# Altium footprint library 2N2222.PcbLib: 1 footprints
Each footprint in its own frame and in the unit in brackets; x right, y up, seen from the top. Pads: shape width x height; smd on the part's side, far side on the other; paste and mask are expansions set on the pad; w line width, h text height; cw(c..) or ccw(c..) is an arc to the next point about the centre after c.
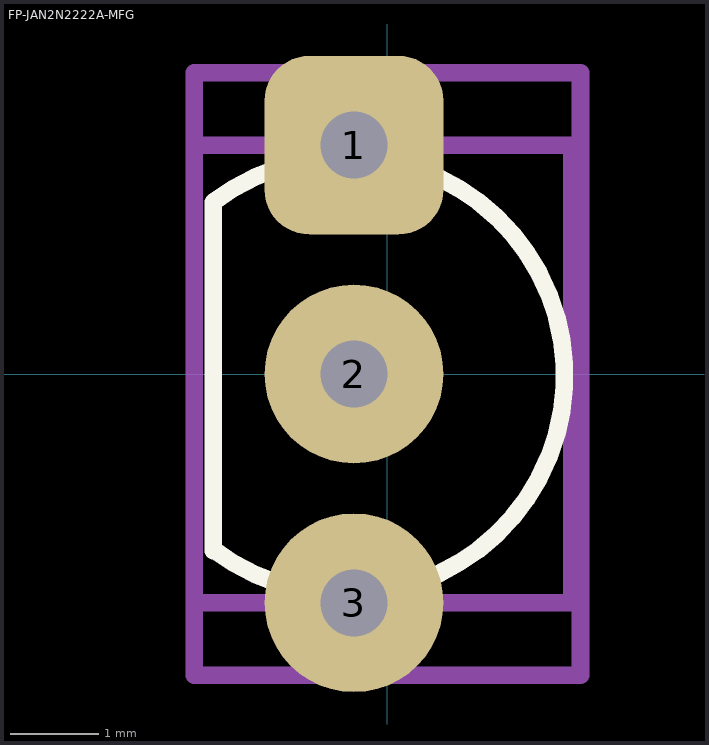
[diagram p0: the footprint, top view; thin cyan lines are the x and y axes]

## FP-JAN2N2222A-MFG [mil]
pads (3):
  rrect50% 80x80 hole 30 paste-99999 mask+0: 1(-14.96,102.36)
  round 80 hole 30 paste-99999 mask+0: 2(-14.96,0) 3(-14.96,-102.36)
Top Overlay:
  lines w7.87: -77.93,-79.08 -77.93,76.82 ; -77.53,-78.71 ccw(c-18.48,-0.76) -77.53,77.19
Top Assembly:
  lines w7.87: -86.42,-134.84 -86.42,134.84 86.42,134.84 86.42,-134.84 -86.42,-134.84
  text ".Designator" at 42.39,55 h39.37
Top 3D Body:
  lines w7.87: -82.48,-102.36 82.48,-102.36 82.48,102.36 -82.48,102.36
Top Courtyard:
  lines w7.87: -86.42,-134.84 -86.42,134.84 86.42,134.84 86.42,-134.84 -86.42,-134.84
Top Component Center:
  lines w3.94: -19.68,0 19.68,0 ; 0,-19.68 0,19.68
3D body "Trans_onsemi_KSA733YTA_eec.STEP": height 10, standoff 0, extent -86.42,-134.84 86.42,134.84